# Altium footprint library QUTMS_SupersealPCB.PcbLib: 1 footprints
Each footprint in its own frame and in the unit in brackets; x right, y up, seen from the top. Pads: shape width x height; smd on the part's side, far side on the other; paste and mask are expansions set on the pad; w line width, h text height; cw(c..) or ccw(c..) is an arc to the next point about the centre after c.
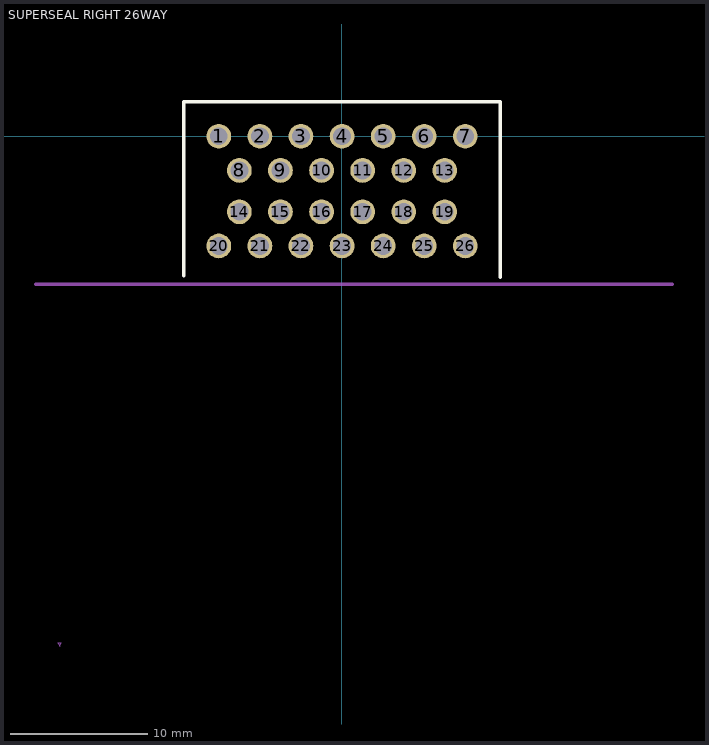
[diagram p0: the footprint, top view; thin cyan lines are the x and y axes]

## SUPERSEAL RIGHT 26WAY [mil]
pads (26):
  round 71 hole 51: 1(-353.66,0.35) 2(-235.55,0.35) 3(-117.44,0.35) 4(0.67,0.35) 5(118.78,0.35) 6(236.89,0.35) 7(355,0.35) 8(-294.55,-97.76) 9(-176.44,-97.76) 10(-58.33,-97.76) 11(59.78,-97.76) 12(177.89,-97.76) 13(296,-97.76) 14(-294.55,-216.88) 15(-176.44,-216.88) 16(-58.33,-216.88) 17(59.78,-216.88) 18(177.89,-216.88) 19(296,-216.88) 20(-353.66,-315) 21(-235.55,-315) 22(-117.44,-315) 23(0.67,-315) 24(118.78,-315) 25(236.89,-315) 26(355,-315)
Top Overlay:
  lines w10: -455,-400 -455,100 455,100 455,-405
Mechanical 7:
  lines w1: -816.83,-1456.32 -811.83,-1466.32 -806.83,-1456.32 -816.83,-1456.32
  lines w10: -880,-425 950,-425
  text "\/ BOARD EDGE \/" at -234.92,-404 h30
3D body "c-9-6437287-8-c-3d.stp": height 969.21, standoff -296.54, extent -777.56,-1338 777.56,99.01
3D body: height 10, standoff 0, extent 355,-315 365,-305